# Altium footprint library Grove B4B.PcbLib: 1 footprints
Each footprint in its own frame and in the unit in brackets; x right, y up, seen from the top. Pads: shape width x height; smd on the part's side, far side on the other; paste and mask are expansions set on the pad; w line width, h text height; cw(c..) or ccw(c..) is an arc to the next point about the centre after c.
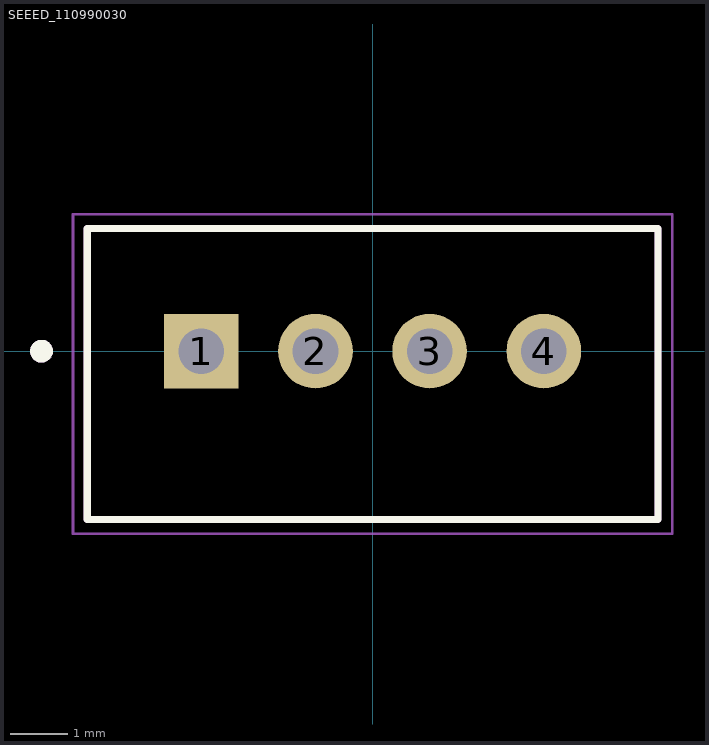
[diagram p0: the footprint, top view; thin cyan lines are the x and y axes]

## SEEED_110990030 [mm]
pads (4):
  rect 1.308x1.308 hole 0.8: 1(-3,0)
  round 1.308 hole 0.8: 2(-1,0) 3(1,0) 4(3,0)
Top Overlay:
  circle w0.2: c-5.8,0 r0.1
  lines w0.127: -5,-2.95 -5,2.15 5,2.15 5,-2.95 -5,-2.95
Mechanical 13:
  circle w0.2: c-5.8,0 r0.1
  lines w0.127: -5,-2.95 -5,2.15 5,2.15 5,-2.95 -5,-2.95
Mechanical 15:
  lines w0.05: -5.25,-3.2 -5.25,2.4 5.25,2.4 5.25,-3.2 -5.25,-3.2